# Altium footprint library RES_Axial_p25W.PcbLib: 1 footprints
Each footprint in its own frame and in the unit in brackets; x right, y up, seen from the top. Pads: shape width x height; smd on the part's side, far side on the other; paste and mask are expansions set on the pad; w line width, h text height; cw(c..) or ccw(c..) is an arc to the next point about the centre after c.
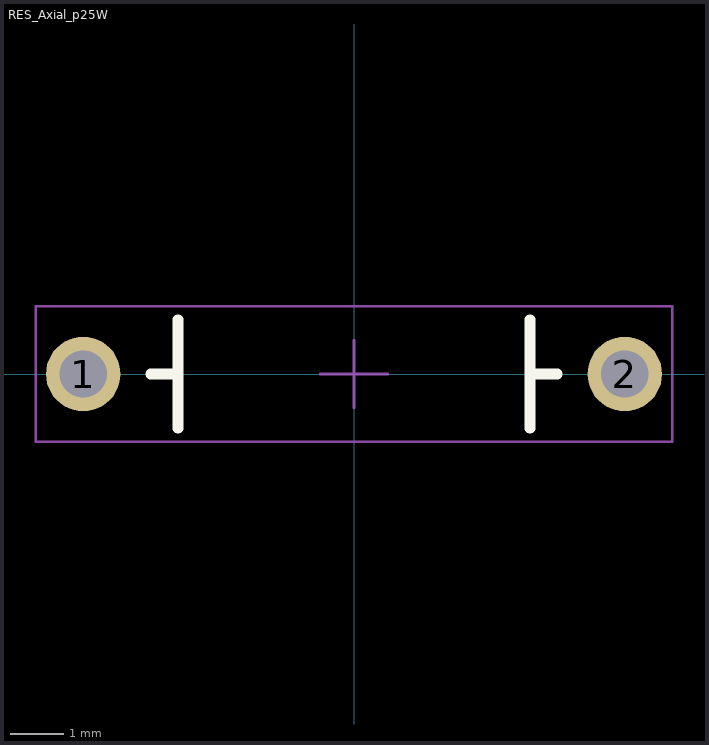
[diagram p0: the footprint, top view; thin cyan lines are the x and y axes]

## RES_Axial_p25W [mil] "Axial 1/4W Resistor"
pads (2):
  round 55 hole 35: 1(-200,0) 2(200,0)
Top Overlay:
  lines w7.87: -150,0 -130,0 ; -130,-40 -130,0 ; -130,40 -130,0 ; 130,-40 130,40 ; 133.86,0 150,0
Mechanical 15:
  lines w1.97: -25,0 25,0 ; 0,-25 0,25 ; -235,-50 235,-50 235,50 -235,50 -235,-50
3D body: height 95, standoff -78.74, extent -211.8,-47.24 211.82,47.25